# Altium integrated library TI Power Management Linear Regulator Single Channel LDO (0-350mA).IntLib: 1648 symbols (part 16 of 66)
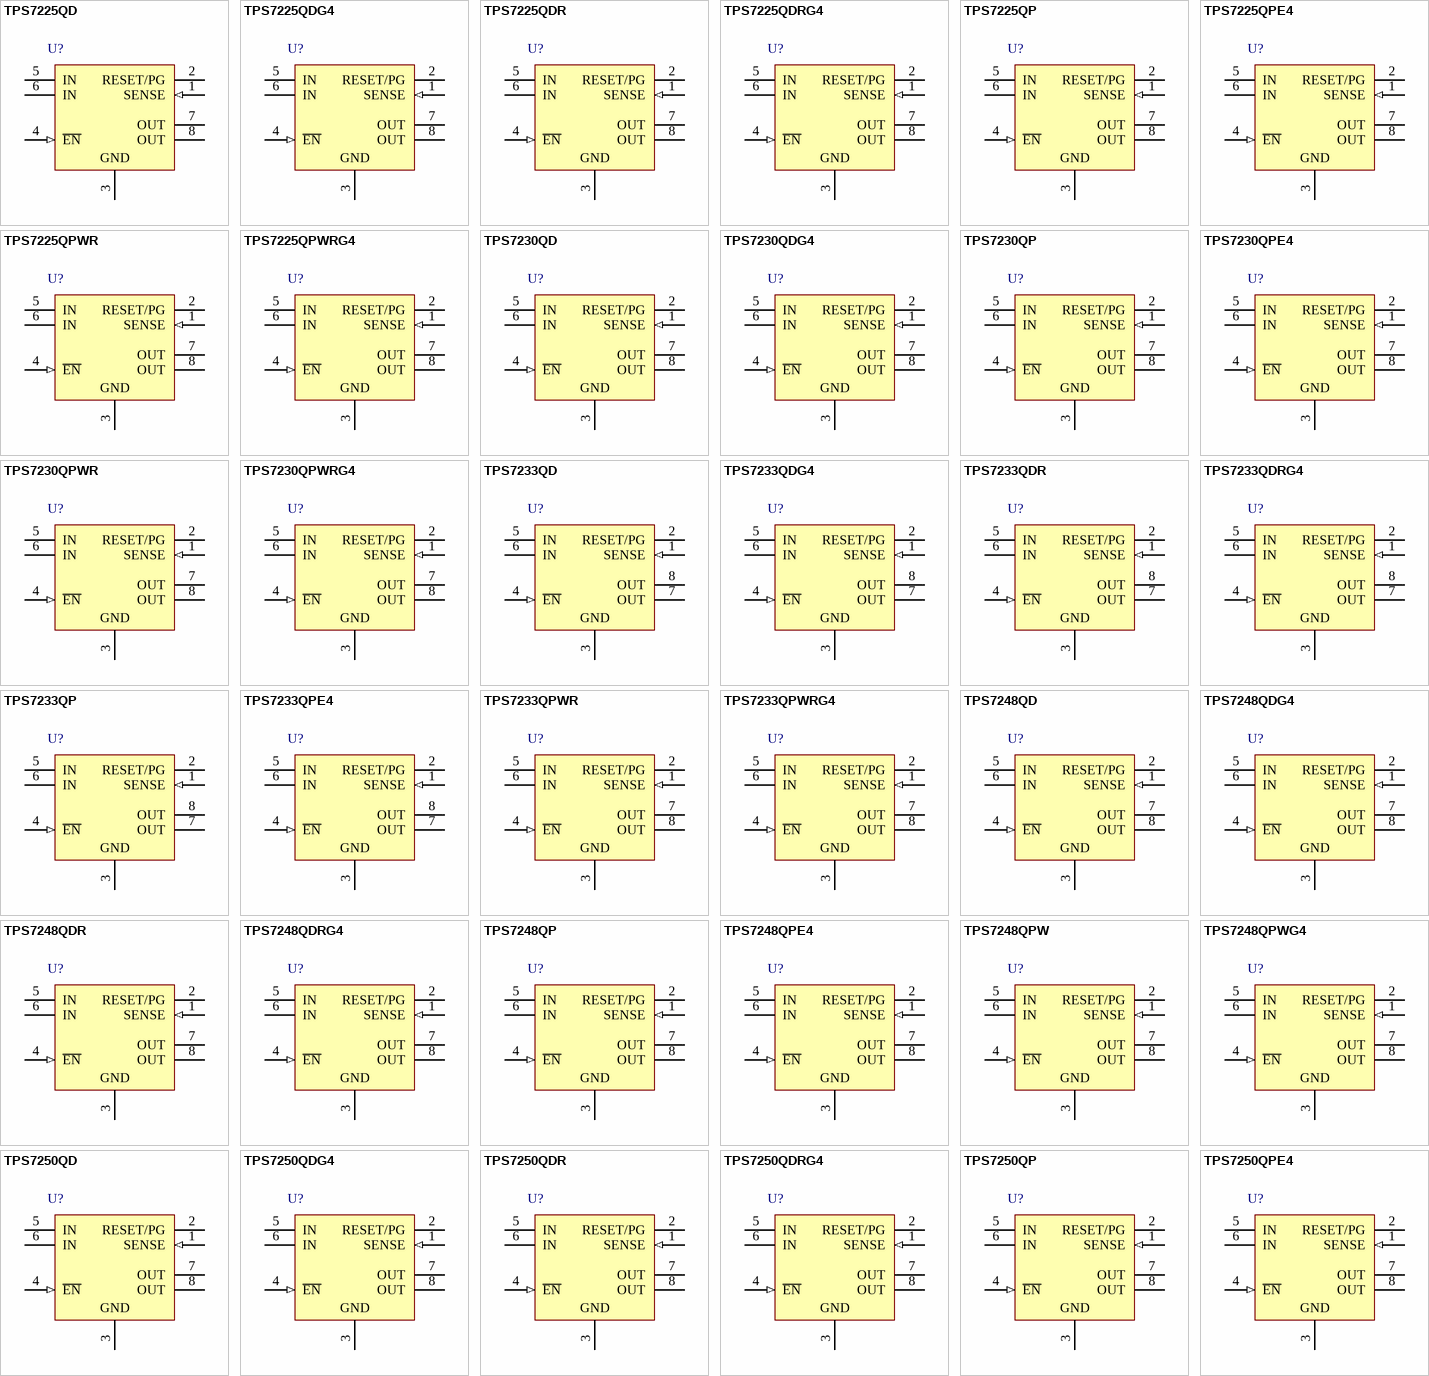
[diagram p57: symbols TPS7225QD to TPS7250QPE4]

## TPS7248QPW
designator U?
Single Output LDO, 250 mA, Fixed 4.85 V Output, 5.2 to 10 V Input, with Low IQ, 8-pin TSSOP (PW), -40 to 125 degC, Green (RoHS & no Sb/Br); Manufacturer: Texas Instruments; PartNumber: TPS7248QPW; Fixed Output Options(V): 4.85; Iout(Max)(A): 0.25; Iq(Typ)(mA): 0.18; Power Good: TRUE; SubFamily: Single Channel LDO; Vdo(Typ)(mV): 216; Vin(Max)(V): 10; Vin(Min)(V): 5.24; DatasheetVersion: SLVS102G; PackageVersion: 4040064-2/G; PackageReference: PW8; PackageDescription: 8-Pin Plastic Small Outline, Body 4.4 x 3 mm, Pitch 0.65 mm; Supplier 1: Digi-Key; Supplier Part Number 1: TPS7248QPW-ND; Supplier 2: Mouser; Supplier Part Number 2: 595-TPS7248QPW; Eco-Plan: Green (RoHS & no Sb/Br); Vout Adj(Max)(V): 4.85; Vout Adj(Min)(V): 4.85; Mounting Technology: Surface Mount; Code_JEDEC: MO-153; ComponentLink1Description: Manufacturer URL; ComponentLink1URL: http://www.ti.com/; ComponentLink2Description: Datasheet; ComponentLink2URL: http://www.ti.com/general/docs/lit/getliterature.tsp?genericPartNumber=TPS7248&fileType=pdf; ComponentLink3Description: Package Specification; ComponentLink3URL: http://www.ti.com/litv/pdf/mtss001d
footprint TI-PW8_N (SOP, 8-Leads, Body 4.4x3mm, Pitch 0.65mm, IPC Medium Density)
footprint TI-PW8_L (SOP, 8-Leads, Body 4.4x3mm, Pitch 0.65mm, IPC High Density)
footprint TI-PW8_M (SOP, 8-Leads, Body 4.4x3mm, Pitch 0.65mm, IPC Low Density)
pins: 1 SENSE (in), 2 RESET/PG (oc), 3 GND (power), 4 ~{EN} (in), 5 IN (power), 6 IN (power), 7 OUT (power), 8 OUT (power)

## TPS7248QPWG4
designator U?
Single Output LDO, 250 mA, Fixed 4.85 V Output, 5.2 to 10 V Input, with Low IQ, 8-pin TSSOP (PW), -55 to 150 degC, Green (RoHS & no Sb/Br); Manufacturer: Texas Instruments; PartNumber: TPS7248QPWG4; Fixed Output Options(V): 4.85; Iout(Max)(A): 0.25; Iq(Typ)(mA): 0.18; Power Good: TRUE; SubFamily: Single Channel LDO; Vdo(Typ)(mV): 216; Vin(Max)(V): 10; Vin(Min)(V): 5.24; DatasheetVersion: SLVS102G; PackageVersion: 4040064-2/G; PackageReference: PW8; PackageDescription: 8-Pin Plastic Small Outline, Body 4.4 x 3 mm, Pitch 0.65 mm; Supplier 1: Digi-Key; Supplier Part Number 1: TPS7248QPWG4-ND; Supplier 2: Mouser; Supplier Part Number 2: 595-TPS7248QPWG4; Eco-Plan: Green (RoHS & no Sb/Br); Vout Adj(Max)(V): 4.85; Vout Adj(Min)(V): 4.85; Mounting Technology: Surface Mount; Code_JEDEC: MO-153; ComponentLink1Description: Manufacturer URL; ComponentLink1URL: http://www.ti.com/; ComponentLink2Description: Datasheet; ComponentLink2URL: http://www.ti.com/general/docs/lit/getliterature.tsp?genericPartNumber=TPS7248&fileType=pdf; ComponentLink3Description: Package Specification; ComponentLink3URL: http://www.ti.com/litv/pdf/mtss001d
footprint TI-PW8_N (SOP, 8-Leads, Body 4.4x3mm, Pitch 0.65mm, IPC Medium Density)
footprint TI-PW8_L (SOP, 8-Leads, Body 4.4x3mm, Pitch 0.65mm, IPC High Density)
footprint TI-PW8_M (SOP, 8-Leads, Body 4.4x3mm, Pitch 0.65mm, IPC Low Density)
pins: 1 SENSE (in), 2 RESET/PG (oc), 3 GND (power), 4 ~{EN} (in), 5 IN (power), 6 IN (power), 7 OUT (power), 8 OUT (power)

## TPS7250QD
designator U?
Single Output LDO, 250 mA, Fixed 5 V Output, 5.4 to 10 V Input, with Low IQ, 8-pin SOIC (D), -40 to 125 degC, Green (RoHS & no Sb/Br); Manufacturer: Texas Instruments; PartNumber: TPS7250QD; Accuracy(%): 2; Fixed Output Options(V): 5; Iout(Max)(A): 0.25; Iq(Typ)(mA): 0.18; Power Good: TRUE; SubFamily: Single Channel LDO; Vdo(Typ)(mV): 190; Vin(Max)(V): 10; Vin(Min)(V): 5.41; DatasheetVersion: SLVS102G; PackageVersion: 4040047-3/M; PackageReference: D8; PackageDescription: 8-Pin Plastic Small Outline, Body 4.9 x 3.9 mm, Pitch 1.27 mm; Supplier 1: Digi-Key; Supplier Part Number 1: 296-1361-5-ND; Supplier 2: Newark; Supplier Part Number 2: 72K9598; Supplier 3: Mouser; Supplier Part Number 3: 595-TPS7250QD; Eco-Plan: Green (RoHS & no Sb/Br); Vout Adj(Max)(V): 5; Vout Adj(Min)(V): 5; Mounting Technology: Surface Mount; Code_JEDEC: MS-012; ComponentLink1Description: Manufacturer URL; ComponentLink1URL: http://www.ti.com/; ComponentLink2Description: Datasheet; ComponentLink2URL: http://www.ti.com/general/docs/lit/getliterature.tsp?genericPartNumber=TPS7250&fileType=pdf; ComponentLink3Description: Package Specification; ComponentLink3URL: http://www.ti.com/litv/pdf/msoi002j
footprint TI-D8_N (SOIC, 8-Leads, Body 4.9x3.9mm, Pitch 1.27mm, IPC Medium Density)
footprint TI-D8_L (SOIC, 8-Leads, Body 4.9x3.9mm, Pitch 1.27mm, IPC High Density)
footprint TI-D8_M (SOIC, 8-Leads, Body 4.9x3.9mm, Pitch 1.27mm, IPC Low Density)
pins: 1 SENSE (in), 2 RESET/PG (oc), 3 GND (power), 4 ~{EN} (in), 5 IN (power), 6 IN (power), 7 OUT (power), 8 OUT (power)

## TPS7250QDG4
designator U?
Single Output LDO, 250 mA, Fixed 5 V Output, 5.4 to 10 V Input, with Low IQ, 8-pin SOIC (D), -40 to 125 degC, Green (RoHS & no Sb/Br); Manufacturer: Texas Instruments; PartNumber: TPS7250QDG4; Accuracy(%): 2; Fixed Output Options(V): 5; Iout(Max)(A): 0.25; Iq(Typ)(mA): 0.18; Power Good: TRUE; SubFamily: Single Channel LDO; Vdo(Typ)(mV): 190; Vin(Max)(V): 10; Vin(Min)(V): 5.41; DatasheetVersion: SLVS102G; PackageVersion: 4040047-3/M; PackageReference: D8; PackageDescription: 8-Pin Plastic Small Outline, Body 4.9 x 3.9 mm, Pitch 1.27 mm; Supplier 1: Digi-Key; Supplier Part Number 1: TPS7250QDG4-ND; Supplier 2: Mouser; Supplier Part Number 2: 595-TPS7250QDG4; Eco-Plan: Green (RoHS & no Sb/Br); Vout Adj(Max)(V): 5; Vout Adj(Min)(V): 5; Mounting Technology: Surface Mount; Code_JEDEC: MS-012; ComponentLink1Description: Manufacturer URL; ComponentLink1URL: http://www.ti.com/; ComponentLink2Description: Datasheet; ComponentLink2URL: http://www.ti.com/general/docs/lit/getliterature.tsp?genericPartNumber=TPS7250&fileType=pdf; ComponentLink3Description: Package Specification; ComponentLink3URL: http://www.ti.com/litv/pdf/msoi002j
footprint TI-D8_N (SOIC, 8-Leads, Body 4.9x3.9mm, Pitch 1.27mm, IPC Medium Density)
footprint TI-D8_L (SOIC, 8-Leads, Body 4.9x3.9mm, Pitch 1.27mm, IPC High Density)
footprint TI-D8_M (SOIC, 8-Leads, Body 4.9x3.9mm, Pitch 1.27mm, IPC Low Density)
pins: 1 SENSE (in), 2 RESET/PG (oc), 3 GND (power), 4 ~{EN} (in), 5 IN (power), 6 IN (power), 7 OUT (power), 8 OUT (power)

## TPS7250QDR
designator U?
Single Output LDO, 250 mA, Fixed 5 V Output, 5.4 to 10 V Input, with Low IQ, 8-pin SOIC (D), -40 to 125 degC, Green (RoHS & no Sb/Br); Manufacturer: Texas Instruments; PartNumber: TPS7250QDR; Accuracy(%): 2; Fixed Output Options(V): 5; Iout(Max)(A): 0.25; Iq(Typ)(mA): 0.18; Power Good: TRUE; SubFamily: Single Channel LDO; Vdo(Typ)(mV): 190; Vin(Max)(V): 10; Vin(Min)(V): 5.41; DatasheetVersion: SLVS102G; PackageVersion: 4040047-3/M; PackageReference: D8; PackageDescription: 8-Pin Plastic Small Outline, Body 4.9 x 3.9 mm, Pitch 1.27 mm; Supplier 1: Digi-Key; Supplier Part Number 1: 296-1361-2-ND; Supplier 2: Digi-Key; Supplier Part Number 2: 296-1361-1-ND; Supplier 3: Digi-Key; Supplier Part Number 3: 296-1361-6-ND; Supplier 4: Newark; Supplier Part Number 4: 35C2220; Supplier 5: Mouser; Supplier Part Number 5: 595-TPS7250QDR; Eco-Plan: Green (RoHS & no Sb/Br); Vout Adj(Max)(V): 5; Vout Adj(Min)(V): 5; Mounting Technology: Surface Mount; Code_JEDEC: MS-012; ComponentLink1Description: Manufacturer URL; ComponentLink1URL: http://www.ti.com/; ComponentLink2Description: Datasheet; ComponentLink2URL: http://www.ti.com/general/docs/lit/getliterature.tsp?genericPartNumber=TPS7250&fileType=pdf; ComponentLink3Description: Package Specification; ComponentLink3URL: http://www.ti.com/litv/pdf/msoi002j
footprint TI-D8_N (SOIC, 8-Leads, Body 4.9x3.9mm, Pitch 1.27mm, IPC Medium Density)
footprint TI-D8_L (SOIC, 8-Leads, Body 4.9x3.9mm, Pitch 1.27mm, IPC High Density)
footprint TI-D8_M (SOIC, 8-Leads, Body 4.9x3.9mm, Pitch 1.27mm, IPC Low Density)
pins: 1 SENSE (in), 2 RESET/PG (oc), 3 GND (power), 4 ~{EN} (in), 5 IN (power), 6 IN (power), 7 OUT (power), 8 OUT (power)

## TPS7250QDRG4
designator U?
Single Output LDO, 250 mA, Fixed 5 V Output, 5.4 to 10 V Input, with Low IQ, 8-pin SOIC (D), -40 to 125 degC, Green (RoHS & no Sb/Br); Manufacturer: Texas Instruments; PartNumber: TPS7250QDRG4; Accuracy(%): 2; Fixed Output Options(V): 5; Iout(Max)(A): 0.25; Iq(Typ)(mA): 0.18; Power Good: TRUE; SubFamily: Single Channel LDO; Vdo(Typ)(mV): 190; Vin(Max)(V): 10; Vin(Min)(V): 5.41; DatasheetVersion: SLVS102G; PackageVersion: 4040047-3/M; PackageReference: D8; PackageDescription: 8-Pin Plastic Small Outline, Body 4.9 x 3.9 mm, Pitch 1.27 mm; Supplier 1: Digi-Key; Supplier Part Number 1: TPS7250QDRG4-ND; Supplier 2: Mouser; Supplier Part Number 2: 595-TPS7250QDRG4; Eco-Plan: Green (RoHS & no Sb/Br); Vout Adj(Max)(V): 5; Vout Adj(Min)(V): 5; Mounting Technology: Surface Mount; Code_JEDEC: MS-012; ComponentLink1Description: Manufacturer URL; ComponentLink1URL: http://www.ti.com/; ComponentLink2Description: Datasheet; ComponentLink2URL: http://www.ti.com/general/docs/lit/getliterature.tsp?genericPartNumber=TPS7250&fileType=pdf; ComponentLink3Description: Package Specification; ComponentLink3URL: http://www.ti.com/litv/pdf/msoi002j
footprint TI-D8_N (SOIC, 8-Leads, Body 4.9x3.9mm, Pitch 1.27mm, IPC Medium Density)
footprint TI-D8_L (SOIC, 8-Leads, Body 4.9x3.9mm, Pitch 1.27mm, IPC High Density)
footprint TI-D8_M (SOIC, 8-Leads, Body 4.9x3.9mm, Pitch 1.27mm, IPC Low Density)
pins: 1 SENSE (in), 2 RESET/PG (oc), 3 GND (power), 4 ~{EN} (in), 5 IN (power), 6 IN (power), 7 OUT (power), 8 OUT (power)

## TPS7250QP
designator U?
Single Output LDO, 250 mA, Fixed 5 V Output, 5.4 to 10 V Input, with Low IQ, 8-pin PDIP (P), -40 to 125 degC, Pb-Free (RoHS); Manufacturer: Texas Instruments; PartNumber: TPS7250QP; Accuracy(%): 2; Fixed Output Options(V): 5; Iout(Max)(A): 0.25; Iq(Typ)(mA): 0.18; Power Good: TRUE; SubFamily: Single Channel LDO; Vdo(Typ)(mV): 190; Vin(Max)(V): 10; Vin(Min)(V): 5.41; DatasheetVersion: SLVS102G; PackageVersion: 4040082/E; PackageReference: P8; PackageDescription: 8-Pin Plastic In-Line, Body 9.59 x 6.35 mm, 2.54 mm Pitch; Supplier 1: Digi-Key; Supplier Part Number 1: 296-8059-5-ND; Supplier 2: Farnell; Supplier Part Number 2: 1135414; Supplier 3: Newark; Supplier Part Number 3: 52F3990; Supplier 4: Mouser; Supplier Part Number 4: 595-TPS7250QP; Eco-Plan: Pb-Free (RoHS); Vout Adj(Max)(V): 5; Vout Adj(Min)(V): 5; Mounting Technology: Through Hole; Code_JEDEC: MS-001; ComponentLink1Description: Manufacturer URL; ComponentLink1URL: http://www.ti.com/; ComponentLink2Description: Datasheet; ComponentLink2URL: http://www.ti.com/general/docs/lit/getliterature.tsp?genericPartNumber=TPS7250&fileType=pdf; ComponentLink3Description: Package Specification; ComponentLink3URL: http://www.ti.com/litv/pdf/mpdi001b
footprint TI-P8 (DIP, 8-Leads, Body 9.59x6.35mm, Pitch 2.54mm)
pins: 1 SENSE (in), 2 RESET/PG (oc), 3 GND (power), 4 ~{EN} (in), 5 IN (power), 6 IN (power), 7 OUT (power), 8 OUT (power)

## TPS7250QPE4
designator U?
Single Output LDO, 250 mA, Fixed 5 V Output, 5.4 to 10 V Input, with Low IQ, 8-pin PDIP (P), -40 to 125 degC, Pb-Free (RoHS); Manufacturer: Texas Instruments; PartNumber: TPS7250QPE4; Accuracy(%): 2; Fixed Output Options(V): 5; Iout(Max)(A): 0.25; Iq(Typ)(mA): 0.18; Power Good: TRUE; SubFamily: Single Channel LDO; Vdo(Typ)(mV): 190; Vin(Max)(V): 10; Vin(Min)(V): 5.41; DatasheetVersion: SLVS102G; PackageVersion: 4040082/E; PackageReference: P8; PackageDescription: 8-Pin Plastic In-Line, Body 9.59 x 6.35 mm, 2.54 mm Pitch; Supplier 1: Digi-Key; Supplier Part Number 1: TPS7250QPE4-ND; Supplier 2: Mouser; Supplier Part Number 2: 595-TPS7250QPE4; Eco-Plan: Pb-Free (RoHS); Vout Adj(Max)(V): 5; Vout Adj(Min)(V): 5; Mounting Technology: Through Hole; Code_JEDEC: MS-001; ComponentLink1Description: Manufacturer URL; ComponentLink1URL: http://www.ti.com/; ComponentLink2Description: Datasheet; ComponentLink2URL: http://www.ti.com/general/docs/lit/getliterature.tsp?genericPartNumber=TPS7250&fileType=pdf; ComponentLink3Description: Package Specification; ComponentLink3URL: http://www.ti.com/litv/pdf/mpdi001b
footprint TI-P8 (DIP, 8-Leads, Body 9.59x6.35mm, Pitch 2.54mm)
pins: 1 SENSE (in), 2 RESET/PG (oc), 3 GND (power), 4 ~{EN} (in), 5 IN (power), 6 IN (power), 7 OUT (power), 8 OUT (power)

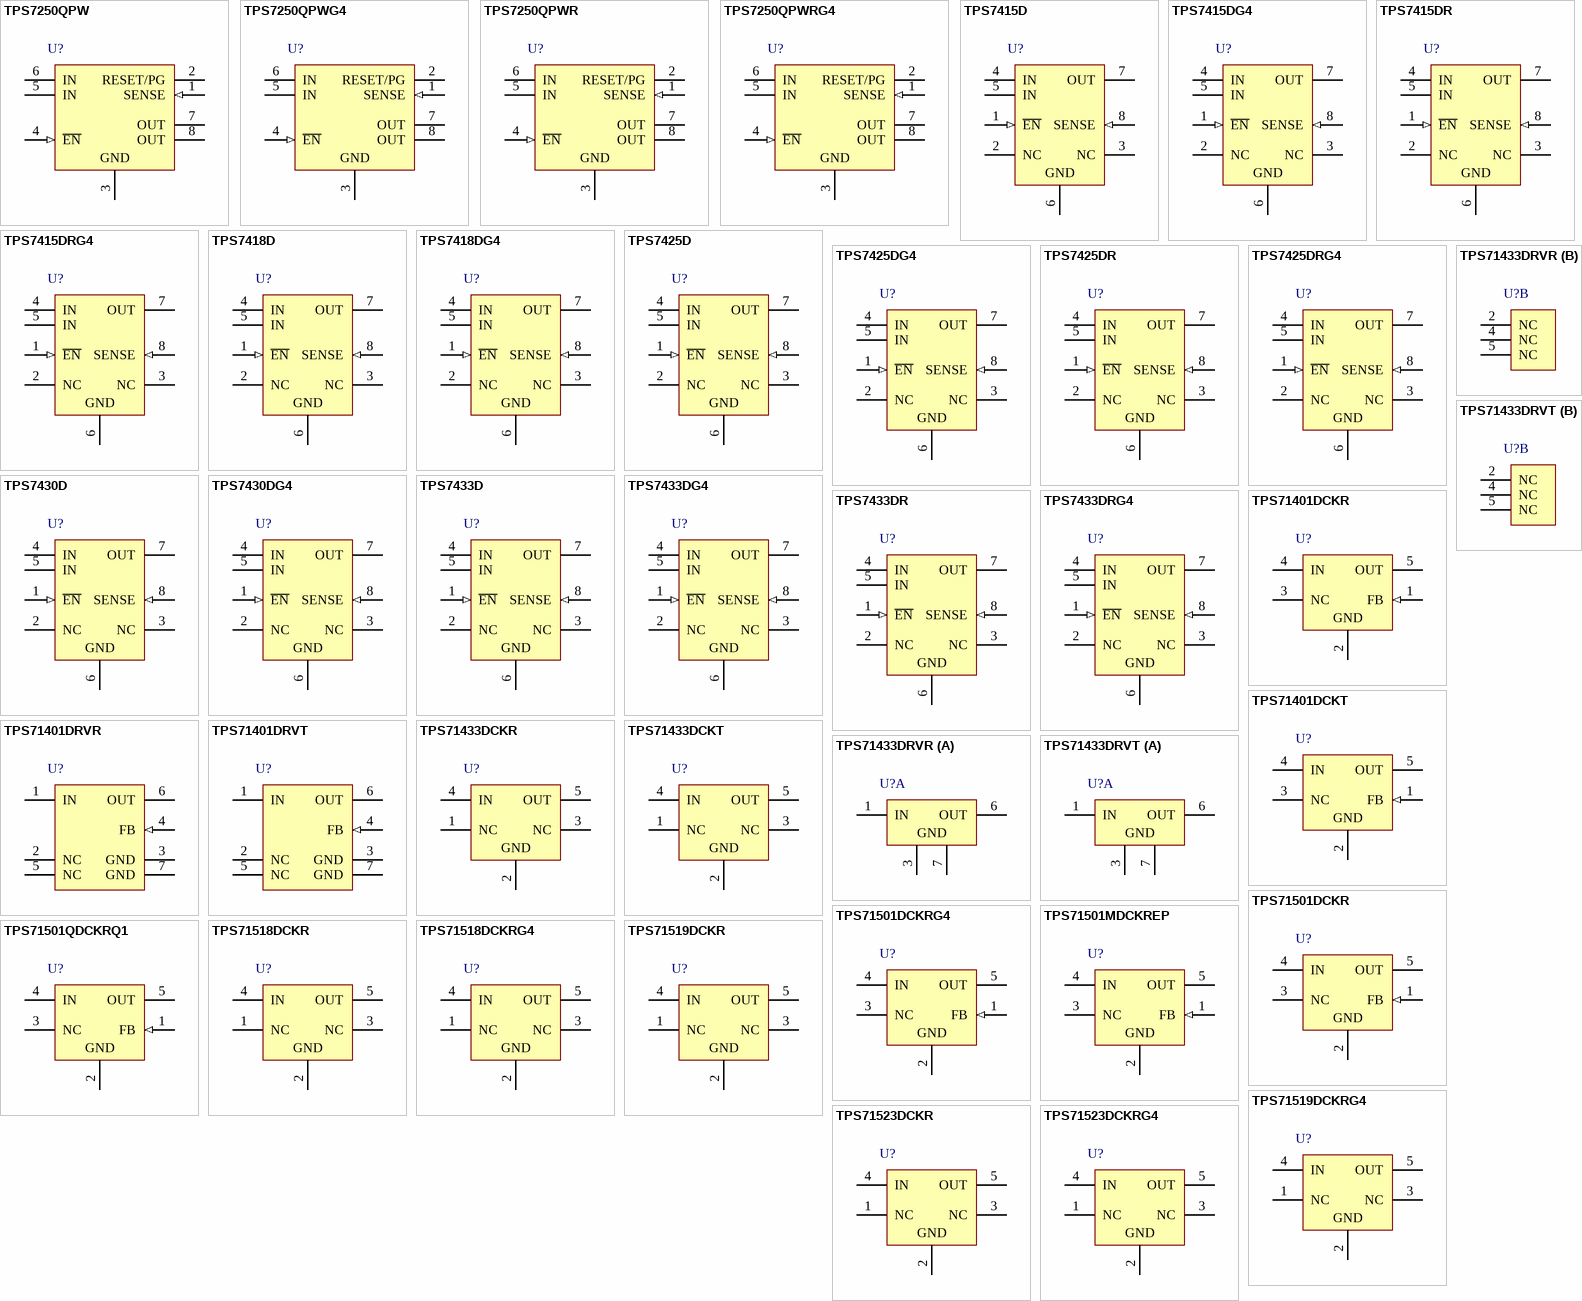
[diagram p11: symbols TPS7250QPW to TPS71523DCKRG4]

## TPS7250QPW
designator U?
Single Output LDO, 250 mA, Fixed 5 V Output, 5.4 to 10 V Input, with Low IQ, 8-pin TSSOP (PW), -40 to 125 degC, Green (RoHS & no Sb/Br); Manufacturer: Texas Instruments; PartNumber: TPS7250QPW; Accuracy(%): 2; Fixed Output Options(V): 5; Iout(Max)(A): 0.25; Iq(Typ)(mA): 0.18; Power Good: TRUE; SubFamily: Single Channel LDO; Vdo(Typ)(mV): 190; Vin(Max)(V): 10; Vin(Min)(V): 5.41; DatasheetVersion: SLVS102G; PackageVersion: 4040064-2/G; PackageReference: PW8; PackageDescription: 8-Pin Plastic Small Outline, Body 4.4 x 3 mm, Pitch 0.65 mm; Supplier 1: Digi-Key; Supplier Part Number 1: TPS7250QPW-ND; Supplier 2: Mouser; Supplier Part Number 2: 595-TPS7250QPW; Eco-Plan: Green (RoHS & no Sb/Br); Vout Adj(Max)(V): 5; Vout Adj(Min)(V): 5; Mounting Technology: Surface Mount; Code_JEDEC: MO-153; ComponentLink1Description: Manufacturer URL; ComponentLink1URL: http://www.ti.com/; ComponentLink2Description: Datasheet; ComponentLink2URL: http://www.ti.com/general/docs/lit/getliterature.tsp?genericPartNumber=TPS7250&fileType=pdf; ComponentLink3Description: Package Specification; ComponentLink3URL: http://www.ti.com/litv/pdf/mtss001d
footprint TI-PW8_N (SOP, 8-Leads, Body 4.4x3mm, Pitch 0.65mm, IPC Medium Density)
footprint TI-PW8_L (SOP, 8-Leads, Body 4.4x3mm, Pitch 0.65mm, IPC High Density)
footprint TI-PW8_M (SOP, 8-Leads, Body 4.4x3mm, Pitch 0.65mm, IPC Low Density)
pins: 1 SENSE (in), 2 RESET/PG (oc), 3 GND (power), 4 ~{EN} (in), 5 IN (power), 6 IN (power), 7 OUT (power), 8 OUT (power)

## TPS7250QPWG4
designator U?
Single Output LDO, 250 mA, Fixed 5 V Output, 5.4 to 10 V Input, with Low IQ, 8-pin TSSOP (PW), -40 to 125 degC, Green (RoHS & no Sb/Br); Manufacturer: Texas Instruments; PartNumber: TPS7250QPWG4; Accuracy(%): 2; Fixed Output Options(V): 5; Iout(Max)(A): 0.25; Iq(Typ)(mA): 0.18; Power Good: TRUE; SubFamily: Single Channel LDO; Vdo(Typ)(mV): 190; Vin(Max)(V): 10; Vin(Min)(V): 5.41; DatasheetVersion: SLVS102G; PackageVersion: 4040064-2/G; PackageReference: PW8; PackageDescription: 8-Pin Plastic Small Outline, Body 4.4 x 3 mm, Pitch 0.65 mm; Supplier 1: Digi-Key; Supplier Part Number 1: TPS7250QPWG4-ND; Supplier 2: Mouser; Supplier Part Number 2: 595-TPS7250QPWG4; Eco-Plan: Green (RoHS & no Sb/Br); Vout Adj(Max)(V): 5; Vout Adj(Min)(V): 5; Mounting Technology: Surface Mount; Code_JEDEC: MO-153; ComponentLink1Description: Manufacturer URL; ComponentLink1URL: http://www.ti.com/; ComponentLink2Description: Datasheet; ComponentLink2URL: http://www.ti.com/general/docs/lit/getliterature.tsp?genericPartNumber=TPS7250&fileType=pdf; ComponentLink3Description: Package Specification; ComponentLink3URL: http://www.ti.com/litv/pdf/mtss001d
footprint TI-PW8_N (SOP, 8-Leads, Body 4.4x3mm, Pitch 0.65mm, IPC Medium Density)
footprint TI-PW8_L (SOP, 8-Leads, Body 4.4x3mm, Pitch 0.65mm, IPC High Density)
footprint TI-PW8_M (SOP, 8-Leads, Body 4.4x3mm, Pitch 0.65mm, IPC Low Density)
pins: 1 SENSE (in), 2 RESET/PG (oc), 3 GND (power), 4 ~{EN} (in), 5 IN (power), 6 IN (power), 7 OUT (power), 8 OUT (power)

## TPS7250QPWR
designator U?
Single Output LDO, 250 mA, Fixed 5 V Output, 5.4 to 10 V Input, with Low IQ, 8-pin TSSOP (PW), -40 to 125 degC, Green (RoHS & no Sb/Br); Manufacturer: Texas Instruments; PartNumber: TPS7250QPWR; Accuracy(%): 2; Fixed Output Options(V): 5; Iout(Max)(A): 0.25; Iq(Typ)(mA): 0.18; Power Good: TRUE; SubFamily: Single Channel LDO; Vdo(Typ)(mV): 190; Vin(Max)(V): 10; Vin(Min)(V): 5.41; DatasheetVersion: SLVS102G; PackageVersion: 4040064-2/G; PackageReference: PW8; PackageDescription: 8-Pin Plastic Small Outline, Body 4.4 x 3 mm, Pitch 0.65 mm; Supplier 1: Digi-Key; Supplier Part Number 1: 296-8060-2-ND; Supplier 2: Digi-Key; Supplier Part Number 2: 296-8060-1-ND; Supplier 3: Digi-Key; Supplier Part Number 3: 296-8060-6-ND; Supplier 4: Mouser; Supplier Part Number 4: 595-TPS7250QPWR; Eco-Plan: Green (RoHS & no Sb/Br); Vout Adj(Max)(V): 5; Vout Adj(Min)(V): 5; Mounting Technology: Surface Mount; Code_JEDEC: MO-153; ComponentLink1Description: Manufacturer URL; ComponentLink1URL: http://www.ti.com/; ComponentLink2Description: Datasheet; ComponentLink2URL: http://www.ti.com/general/docs/lit/getliterature.tsp?genericPartNumber=TPS7250&fileType=pdf; ComponentLink3Description: Package Specification; ComponentLink3URL: http://www.ti.com/litv/pdf/mtss001d
footprint TI-PW8_N (SOP, 8-Leads, Body 4.4x3mm, Pitch 0.65mm, IPC Medium Density)
footprint TI-PW8_L (SOP, 8-Leads, Body 4.4x3mm, Pitch 0.65mm, IPC High Density)
footprint TI-PW8_M (SOP, 8-Leads, Body 4.4x3mm, Pitch 0.65mm, IPC Low Density)
pins: 1 SENSE (in), 2 RESET/PG (oc), 3 GND (power), 4 ~{EN} (in), 5 IN (power), 6 IN (power), 7 OUT (power), 8 OUT (power)

## TPS7250QPWRG4
designator U?
Single Output LDO, 250 mA, Fixed 5 V Output, 5.4 to 10 V Input, with Low IQ, 8-pin TSSOP (PW), -40 to 125 degC, Green (RoHS & no Sb/Br); Manufacturer: Texas Instruments; PartNumber: TPS7250QPWRG4; Accuracy(%): 2; Fixed Output Options(V): 5; Iout(Max)(A): 0.25; Iq(Typ)(mA): 0.18; Power Good: TRUE; SubFamily: Single Channel LDO; Vdo(Typ)(mV): 190; Vin(Max)(V): 10; Vin(Min)(V): 5.41; DatasheetVersion: SLVS102G; PackageVersion: 4040064-2/G; PackageReference: PW8; PackageDescription: 8-Pin Plastic Small Outline, Body 4.4 x 3 mm, Pitch 0.65 mm; Supplier 1: Digi-Key; Supplier Part Number 1: TPS7250QPWRG4-ND; Supplier 2: Mouser; Supplier Part Number 2: 595-TPS7250QPWRG4; Eco-Plan: Green (RoHS & no Sb/Br); Vout Adj(Max)(V): 5; Vout Adj(Min)(V): 5; Mounting Technology: Surface Mount; Code_JEDEC: MO-153; ComponentLink1Description: Manufacturer URL; ComponentLink1URL: http://www.ti.com/; ComponentLink2Description: Datasheet; ComponentLink2URL: http://www.ti.com/general/docs/lit/getliterature.tsp?genericPartNumber=TPS7250&fileType=pdf; ComponentLink3Description: Package Specification; ComponentLink3URL: http://www.ti.com/litv/pdf/mtss001d
footprint TI-PW8_N (SOP, 8-Leads, Body 4.4x3mm, Pitch 0.65mm, IPC Medium Density)
footprint TI-PW8_L (SOP, 8-Leads, Body 4.4x3mm, Pitch 0.65mm, IPC High Density)
footprint TI-PW8_M (SOP, 8-Leads, Body 4.4x3mm, Pitch 0.65mm, IPC Low Density)
pins: 1 SENSE (in), 2 RESET/PG (oc), 3 GND (power), 4 ~{EN} (in), 5 IN (power), 6 IN (power), 7 OUT (power), 8 OUT (power)

## TPS7415D
designator U?
Single Output Fast Transient Response LDO, 200 mA, Fixed 1.5 V Output, 2.5 to 7 V Input, 8-pin SOIC (D), -40 to 125 degC, Green (RoHS & no Sb/Br); Manufacturer: Texas Instruments; PartNumber: TPS7415D; Fixed Output Options(V): 1.5; Iout(Max)(A): 0.2; Iq(Typ)(mA): 0.001; SubFamily: Single Channel LDO; Vdo(Typ)(mV): 200; Vin(Max)(V): 7; Vin(Min)(V): 2.5; DatasheetVersion: SLVS212; PackageVersion: 4040047-3/M; PackageReference: D8; PackageDescription: 8-Pin Plastic Small Outline, Body 4.9 x 3.9 mm, Pitch 1.27 mm; Supplier 1: Digi-Key; Supplier Part Number 1: 296-2668-5-ND; Supplier 2: Mouser; Supplier Part Number 2: 595-TPS7415D; Eco-Plan: Green (RoHS & no Sb/Br); Vout Adj(Max)(V): 1.5; Vout Adj(Min)(V): 1.5; Mounting Technology: Surface Mount; Code_JEDEC: MS-012; ComponentLink1Description: Manufacturer URL; ComponentLink1URL: http://www.ti.com/; ComponentLink2Description: Datasheet; ComponentLink2URL: http://www.ti.com/general/docs/lit/getliterature.tsp?genericPartNumber=TPS7415&fileType=pdf; ComponentLink3Description: Package Specification; ComponentLink3URL: http://www.ti.com/litv/pdf/msoi002j
footprint TI-D8_N (SOIC, 8-Leads, Body 4.9x3.9mm, Pitch 1.27mm, IPC Medium Density)
footprint TI-D8_L (SOIC, 8-Leads, Body 4.9x3.9mm, Pitch 1.27mm, IPC High Density)
footprint TI-D8_M (SOIC, 8-Leads, Body 4.9x3.9mm, Pitch 1.27mm, IPC Low Density)
pins: 1 ~{EN} (in) "Enable input", 2 NC "Not connected", 3 NC "Not connected", 4 IN (power) "Input voltage", 5 IN (power) "Input voltage", 6 GND (power) "Regulator ground", 7 OUT (power) "Regulated output voltage", 8 SENSE (in) "Sense"

## TPS7415DG4
designator U?
Single Output Fast Transient Response LDO, 200 mA, Fixed 1.5 V Output, 2.5 to 7 V Input, 8-pin SOIC (D), -40 to 125 degC, Green (RoHS & no Sb/Br); Manufacturer: Texas Instruments; PartNumber: TPS7415DG4; Fixed Output Options(V): 1.5; Iout(Max)(A): 0.2; Iq(Typ)(mA): 0.001; SubFamily: Single Channel LDO; Vdo(Typ)(mV): 200; Vin(Max)(V): 7; Vin(Min)(V): 2.5; DatasheetVersion: SLVS212; PackageVersion: 4040047-3/M; PackageReference: D8; PackageDescription: 8-Pin Plastic Small Outline, Body 4.9 x 3.9 mm, Pitch 1.27 mm; Supplier 1: Digi-Key; Supplier Part Number 1: TPS7415DG4-ND; Supplier 2: Mouser; Supplier Part Number 2: 595-TPS7415DG4; Eco-Plan: Green (RoHS & no Sb/Br); Vout Adj(Max)(V): 1.5; Vout Adj(Min)(V): 1.5; Mounting Technology: Surface Mount; Code_JEDEC: MS-012; ComponentLink1Description: Manufacturer URL; ComponentLink1URL: http://www.ti.com/; ComponentLink2Description: Datasheet; ComponentLink2URL: http://www.ti.com/general/docs/lit/getliterature.tsp?genericPartNumber=TPS7415&fileType=pdf; ComponentLink3Description: Package Specification; ComponentLink3URL: http://www.ti.com/litv/pdf/msoi002j
footprint TI-D8_N (SOIC, 8-Leads, Body 4.9x3.9mm, Pitch 1.27mm, IPC Medium Density)
footprint TI-D8_L (SOIC, 8-Leads, Body 4.9x3.9mm, Pitch 1.27mm, IPC High Density)
footprint TI-D8_M (SOIC, 8-Leads, Body 4.9x3.9mm, Pitch 1.27mm, IPC Low Density)
pins: 1 ~{EN} (in) "Enable input", 2 NC "Not connected", 3 NC "Not connected", 4 IN (power) "Input voltage", 5 IN (power) "Input voltage", 6 GND (power) "Regulator ground", 7 OUT (power) "Regulated output voltage", 8 SENSE (in) "Sense"

## TPS7415DR
designator U?
Single Output Fast Transient Response LDO, 200 mA, Fixed 1.5 V Output, 2.5 to 7 V Input, 8-pin SOIC (D), -40 to 125 degC, Green (RoHS & no Sb/Br); Manufacturer: Texas Instruments; PartNumber: TPS7415DR; Fixed Output Options(V): 1.5; Iout(Max)(A): 0.2; Iq(Typ)(mA): 0.001; SubFamily: Single Channel LDO; Vdo(Typ)(mV): 200; Vin(Max)(V): 7; Vin(Min)(V): 2.5; DatasheetVersion: SLVS212; PackageVersion: 4040047-3/M; PackageReference: D8; PackageDescription: 8-Pin Plastic Small Outline, Body 4.9 x 3.9 mm, Pitch 1.27 mm; Supplier 1: Digi-Key; Supplier Part Number 1: TPS7415DR-ND; Supplier 2: Newark; Supplier Part Number 2: 77C0887; Supplier 3: Mouser; Supplier Part Number 3: 595-TPS7415DR; Eco-Plan: Green (RoHS & no Sb/Br); Vout Adj(Max)(V): 1.5; Vout Adj(Min)(V): 1.5; Mounting Technology: Surface Mount; Code_JEDEC: MS-012; ComponentLink1Description: Manufacturer URL; ComponentLink1URL: http://www.ti.com/; ComponentLink2Description: Datasheet; ComponentLink2URL: http://www.ti.com/general/docs/lit/getliterature.tsp?genericPartNumber=TPS7415&fileType=pdf; ComponentLink3Description: Package Specification; ComponentLink3URL: http://www.ti.com/litv/pdf/msoi002j
footprint TI-D8_N (SOIC, 8-Leads, Body 4.9x3.9mm, Pitch 1.27mm, IPC Medium Density)
footprint TI-D8_L (SOIC, 8-Leads, Body 4.9x3.9mm, Pitch 1.27mm, IPC High Density)
footprint TI-D8_M (SOIC, 8-Leads, Body 4.9x3.9mm, Pitch 1.27mm, IPC Low Density)
pins: 1 ~{EN} (in) "Enable input", 2 NC "Not connected", 3 NC "Not connected", 4 IN (power) "Input voltage", 5 IN (power) "Input voltage", 6 GND (power) "Regulator ground", 7 OUT (power) "Regulated output voltage", 8 SENSE (in) "Sense"

## TPS7415DRG4
designator U?
Single Output Fast Transient Response LDO, 200 mA, Fixed 1.5 V Output, 2.5 to 7 V Input, 8-pin SOIC (D), -40 to 125 degC, Green (RoHS & no Sb/Br); Manufacturer: Texas Instruments; PartNumber: TPS7415DRG4; Fixed Output Options(V): 1.5; Iout(Max)(A): 0.2; Iq(Typ)(mA): 0.001; SubFamily: Single Channel LDO; Vdo(Typ)(mV): 200; Vin(Max)(V): 7; Vin(Min)(V): 2.5; DatasheetVersion: SLVS212; PackageVersion: 4040047-3/M; PackageReference: D8; PackageDescription: 8-Pin Plastic Small Outline, Body 4.9 x 3.9 mm, Pitch 1.27 mm; Supplier 1: Digi-Key; Supplier Part Number 1: TPS7415DRG4-ND; Supplier 2: Mouser; Supplier Part Number 2: 595-TPS7415DRG4; Eco-Plan: Green (RoHS & no Sb/Br); Vout Adj(Max)(V): 1.5; Vout Adj(Min)(V): 1.5; Mounting Technology: Surface Mount; Code_JEDEC: MS-012; ComponentLink1Description: Manufacturer URL; ComponentLink1URL: http://www.ti.com/; ComponentLink2Description: Datasheet; ComponentLink2URL: http://www.ti.com/general/docs/lit/getliterature.tsp?genericPartNumber=TPS7415&fileType=pdf; ComponentLink3Description: Package Specification; ComponentLink3URL: http://www.ti.com/litv/pdf/msoi002j
footprint TI-D8_N (SOIC, 8-Leads, Body 4.9x3.9mm, Pitch 1.27mm, IPC Medium Density)
footprint TI-D8_L (SOIC, 8-Leads, Body 4.9x3.9mm, Pitch 1.27mm, IPC High Density)
footprint TI-D8_M (SOIC, 8-Leads, Body 4.9x3.9mm, Pitch 1.27mm, IPC Low Density)
pins: 1 ~{EN} (in) "Enable input", 2 NC "Not connected", 3 NC "Not connected", 4 IN (power) "Input voltage", 5 IN (power) "Input voltage", 6 GND (power) "Regulator ground", 7 OUT (power) "Regulated output voltage", 8 SENSE (in) "Sense"

## TPS7418D
designator U?
Single Output Fast Transient Response LDO, 200 mA, Fixed 1.8 V Output, 2.5 to 7 V Input, 8-pin SOIC (D), -40 to 125 degC, Green (RoHS & no Sb/Br); Manufacturer: Texas Instruments; PartNumber: TPS7418D; Fixed Output Options(V): 1.8; Iout(Max)(A): 0.2; Iq(Typ)(mA): 0.001; SubFamily: Single Channel LDO; Vdo(Typ)(mV): 200; Vin(Max)(V): 7; Vin(Min)(V): 2.5; DatasheetVersion: SLVS212; PackageVersion: 4040047-3/M; PackageReference: D8; PackageDescription: 8-Pin Plastic Small Outline, Body 4.9 x 3.9 mm, Pitch 1.27 mm; Supplier 1: Digi-Key; Supplier Part Number 1: 296-2669-5-ND; Supplier 2: Newark; Supplier Part Number 2: 77C0888; Supplier 3: Mouser; Supplier Part Number 3: 595-TPS7418D; Eco-Plan: Green (RoHS & no Sb/Br); Vout Adj(Max)(V): 1.8; Vout Adj(Min)(V): 1.8; Mounting Technology: Surface Mount; Code_JEDEC: MS-012; ComponentLink1Description: Manufacturer URL; ComponentLink1URL: http://www.ti.com/; ComponentLink2Description: Datasheet; ComponentLink2URL: http://www.ti.com/general/docs/lit/getliterature.tsp?genericPartNumber=TPS7418&fileType=pdf; ComponentLink3Description: Package Specification; ComponentLink3URL: http://www.ti.com/litv/pdf/msoi002j
footprint TI-D8_N (SOIC, 8-Leads, Body 4.9x3.9mm, Pitch 1.27mm, IPC Medium Density)
footprint TI-D8_L (SOIC, 8-Leads, Body 4.9x3.9mm, Pitch 1.27mm, IPC High Density)
footprint TI-D8_M (SOIC, 8-Leads, Body 4.9x3.9mm, Pitch 1.27mm, IPC Low Density)
pins: 1 ~{EN} (in) "Enable input", 2 NC "Not connected", 3 NC "Not connected", 4 IN (power) "Input voltage", 5 IN (power) "Input voltage", 6 GND (power) "Regulator ground", 7 OUT (power) "Regulated output voltage", 8 SENSE (in) "Sense"

## TPS7418DG4
designator U?
Single Output Fast Transient Response LDO, 200 mA, Fixed 1.8 V Output, 2.5 to 7 V Input, 8-pin SOIC (D), -40 to 125 degC, Green (RoHS & no Sb/Br); Manufacturer: Texas Instruments; PartNumber: TPS7418DG4; Fixed Output Options(V): 1.8; Iout(Max)(A): 0.2; Iq(Typ)(mA): 0.001; SubFamily: Single Channel LDO; Vdo(Typ)(mV): 200; Vin(Max)(V): 7; Vin(Min)(V): 2.5; DatasheetVersion: SLVS212; PackageVersion: 4040047-3/M; PackageReference: D8; PackageDescription: 8-Pin Plastic Small Outline, Body 4.9 x 3.9 mm, Pitch 1.27 mm; Supplier 1: Digi-Key; Supplier Part Number 1: TPS7418DG4-ND; Supplier 2: Newark; Supplier Part Number 2: 34M0215; Supplier 3: Mouser; Supplier Part Number 3: 595-TPS7418DG4; Eco-Plan: Green (RoHS & no Sb/Br); Vout Adj(Max)(V): 1.8; Vout Adj(Min)(V): 1.8; Mounting Technology: Surface Mount; Code_JEDEC: MS-012; ComponentLink1Description: Manufacturer URL; ComponentLink1URL: http://www.ti.com/; ComponentLink2Description: Datasheet; ComponentLink2URL: http://www.ti.com/general/docs/lit/getliterature.tsp?genericPartNumber=TPS7418&fileType=pdf; ComponentLink3Description: Package Specification; ComponentLink3URL: http://www.ti.com/litv/pdf/msoi002j
footprint TI-D8_N (SOIC, 8-Leads, Body 4.9x3.9mm, Pitch 1.27mm, IPC Medium Density)
footprint TI-D8_L (SOIC, 8-Leads, Body 4.9x3.9mm, Pitch 1.27mm, IPC High Density)
footprint TI-D8_M (SOIC, 8-Leads, Body 4.9x3.9mm, Pitch 1.27mm, IPC Low Density)
pins: 1 ~{EN} (in) "Enable input", 2 NC "Not connected", 3 NC "Not connected", 4 IN (power) "Input voltage", 5 IN (power) "Input voltage", 6 GND (power) "Regulator ground", 7 OUT (power) "Regulated output voltage", 8 SENSE (in) "Sense"

## TPS7425D
designator U?
Single Output Fast Transient Response LDO, 200 mA, Fixed 2.5 V Output, 2.5 to 7 V Input, 8-pin SOIC (D), -40 to 125 degC, Green (RoHS & no Sb/Br); Manufacturer: Texas Instruments; PartNumber: TPS7425D; Fixed Output Options(V): 2.5; Iout(Max)(A): 0.2; Iq(Typ)(mA): 0.001; SubFamily: Single Channel LDO; Vdo(Typ)(mV): 200; Vin(Max)(V): 7; DatasheetVersion: SLVS212; PackageVersion: 4040047-3/M; PackageReference: D8; PackageDescription: 8-Pin Plastic Small Outline, Body 4.9 x 3.9 mm, Pitch 1.27 mm; Supplier 1: Digi-Key; Supplier Part Number 1: 296-2670-5-ND; Supplier 2: Newark; Supplier Part Number 2: 77C0890; Supplier 3: Mouser; Supplier Part Number 3: 595-TPS7425D; Eco-Plan: Green (RoHS & no Sb/Br); Vin(Min)(V): 2.5; Vout Adj(Max)(V): 2.5; Vout Adj(Min)(V): 2.5; Mounting Technology: Surface Mount; Code_JEDEC: MS-012; ComponentLink1Description: Manufacturer URL; ComponentLink1URL: http://www.ti.com/; ComponentLink2Description: Datasheet; ComponentLink2URL: http://www.ti.com/general/docs/lit/getliterature.tsp?genericPartNumber=TPS7425&fileType=pdf; ComponentLink3Description: Package Specification; ComponentLink3URL: http://www.ti.com/litv/pdf/msoi002j
footprint TI-D8_N (SOIC, 8-Leads, Body 4.9x3.9mm, Pitch 1.27mm, IPC Medium Density)
footprint TI-D8_L (SOIC, 8-Leads, Body 4.9x3.9mm, Pitch 1.27mm, IPC High Density)
footprint TI-D8_M (SOIC, 8-Leads, Body 4.9x3.9mm, Pitch 1.27mm, IPC Low Density)
pins: 1 ~{EN} (in) "Enable input", 2 NC "Not connected", 3 NC "Not connected", 4 IN (power) "Input voltage", 5 IN (power) "Input voltage", 6 GND (power) "Regulator ground", 7 OUT (power) "Regulated output voltage", 8 SENSE (in) "Sense"

## TPS7425DG4
designator U?
Single Output Fast Transient Response LDO, 200 mA, Fixed 2.5 V Output, 2.5 to 7 V Input, 8-pin SOIC (D), -40 to 125 degC, Green (RoHS & no Sb/Br); Manufacturer: Texas Instruments; PartNumber: TPS7425DG4; Fixed Output Options(V): 2.5; Iout(Max)(A): 0.2; Iq(Typ)(mA): 0.001; SubFamily: Single Channel LDO; Vdo(Typ)(mV): 200; Vin(Max)(V): 7; DatasheetVersion: SLVS212; PackageVersion: 4040047-3/M; PackageReference: D8; PackageDescription: 8-Pin Plastic Small Outline, Body 4.9 x 3.9 mm, Pitch 1.27 mm; Supplier 1: Digi-Key; Supplier Part Number 1: TPS7425DG4-ND; Supplier 2: Mouser; Supplier Part Number 2: 595-TPS7425DG4; Eco-Plan: Green (RoHS & no Sb/Br); Vin(Min)(V): 2.5; Vout Adj(Max)(V): 2.5; Vout Adj(Min)(V): 2.5; Mounting Technology: Surface Mount; Code_JEDEC: MS-012; ComponentLink1Description: Manufacturer URL; ComponentLink1URL: http://www.ti.com/; ComponentLink2Description: Datasheet; ComponentLink2URL: http://www.ti.com/general/docs/lit/getliterature.tsp?genericPartNumber=TPS7425&fileType=pdf; ComponentLink3Description: Package Specification; ComponentLink3URL: http://www.ti.com/litv/pdf/msoi002j
footprint TI-D8_N (SOIC, 8-Leads, Body 4.9x3.9mm, Pitch 1.27mm, IPC Medium Density)
footprint TI-D8_L (SOIC, 8-Leads, Body 4.9x3.9mm, Pitch 1.27mm, IPC High Density)
footprint TI-D8_M (SOIC, 8-Leads, Body 4.9x3.9mm, Pitch 1.27mm, IPC Low Density)
pins: 1 ~{EN} (in) "Enable input", 2 NC "Not connected", 3 NC "Not connected", 4 IN (power) "Input voltage", 5 IN (power) "Input voltage", 6 GND (power) "Regulator ground", 7 OUT (power) "Regulated output voltage", 8 SENSE (in) "Sense"

## TPS7425DR
designator U?
Single Output Fast Transient Response LDO, 200 mA, Fixed 2.5 V Output, 2.5 to 7 V Input, 8-pin SOIC (D), -40 to 125 degC, Green (RoHS & no Sb/Br); Manufacturer: Texas Instruments; PartNumber: TPS7425DR; Fixed Output Options(V): 2.5; Iout(Max)(A): 0.2; Iq(Typ)(mA): 0.001; SubFamily: Single Channel LDO; Vdo(Typ)(mV): 200; Vin(Max)(V): 7; DatasheetVersion: SLVS212; PackageVersion: 4040047-3/M; PackageReference: D8; PackageDescription: 8-Pin Plastic Small Outline, Body 4.9 x 3.9 mm, Pitch 1.27 mm; Supplier 1: Digi-Key; Supplier Part Number 1: TPS7425DR-ND; Supplier 2: Mouser; Supplier Part Number 2: 595-TPS7425DR; Eco-Plan: Green (RoHS & no Sb/Br); Vin(Min)(V): 2.5; Vout Adj(Max)(V): 2.5; Vout Adj(Min)(V): 2.5; Mounting Technology: Surface Mount; Code_JEDEC: MS-012; ComponentLink1Description: Manufacturer URL; ComponentLink1URL: http://www.ti.com/; ComponentLink2Description: Datasheet; ComponentLink2URL: http://www.ti.com/general/docs/lit/getliterature.tsp?genericPartNumber=TPS7425&fileType=pdf; ComponentLink3Description: Package Specification; ComponentLink3URL: http://www.ti.com/litv/pdf/msoi002j
footprint TI-D8_N (SOIC, 8-Leads, Body 4.9x3.9mm, Pitch 1.27mm, IPC Medium Density)
footprint TI-D8_L (SOIC, 8-Leads, Body 4.9x3.9mm, Pitch 1.27mm, IPC High Density)
footprint TI-D8_M (SOIC, 8-Leads, Body 4.9x3.9mm, Pitch 1.27mm, IPC Low Density)
pins: 1 ~{EN} (in) "Enable input", 2 NC "Not connected", 3 NC "Not connected", 4 IN (power) "Input voltage", 5 IN (power) "Input voltage", 6 GND (power) "Regulator ground", 7 OUT (power) "Regulated output voltage", 8 SENSE (in) "Sense"

## TPS7425DRG4
designator U?
Single Output Fast Transient Response LDO, 200 mA, Fixed 2.5 V Output, 2.5 to 7 V Input, 8-pin SOIC (D), -40 to 125 degC, Green (RoHS & no Sb/Br); Manufacturer: Texas Instruments; PartNumber: TPS7425DRG4; Fixed Output Options(V): 2.5; Iout(Max)(A): 0.2; Iq(Typ)(mA): 0.001; SubFamily: Single Channel LDO; Vdo(Typ)(mV): 200; Vin(Max)(V): 7; DatasheetVersion: SLVS212; PackageVersion: 4040047-3/M; PackageReference: D8; PackageDescription: 8-Pin Plastic Small Outline, Body 4.9 x 3.9 mm, Pitch 1.27 mm; Supplier 1: Digi-Key; Supplier Part Number 1: TPS7425DRG4-ND; Supplier 2: Mouser; Supplier Part Number 2: 595-TPS7425DRG4; Eco-Plan: Green (RoHS & no Sb/Br); Vin(Min)(V): 2.5; Vout Adj(Max)(V): 2.5; Vout Adj(Min)(V): 2.5; Mounting Technology: Surface Mount; Code_JEDEC: MS-012; ComponentLink1Description: Manufacturer URL; ComponentLink1URL: http://www.ti.com/; ComponentLink2Description: Datasheet; ComponentLink2URL: http://www.ti.com/general/docs/lit/getliterature.tsp?genericPartNumber=TPS7425&fileType=pdf; ComponentLink3Description: Package Specification; ComponentLink3URL: http://www.ti.com/litv/pdf/msoi002j
footprint TI-D8_N (SOIC, 8-Leads, Body 4.9x3.9mm, Pitch 1.27mm, IPC Medium Density)
footprint TI-D8_L (SOIC, 8-Leads, Body 4.9x3.9mm, Pitch 1.27mm, IPC High Density)
footprint TI-D8_M (SOIC, 8-Leads, Body 4.9x3.9mm, Pitch 1.27mm, IPC Low Density)
pins: 1 ~{EN} (in) "Enable input", 2 NC "Not connected", 3 NC "Not connected", 4 IN (power) "Input voltage", 5 IN (power) "Input voltage", 6 GND (power) "Regulator ground", 7 OUT (power) "Regulated output voltage", 8 SENSE (in) "Sense"

## TPS7430D
designator U?
Single Output Fast Transient Response LDO, 200 mA, Fixed 3 V Output, 2.5 to 7 V Input, 8-pin SOIC (D), -40 to 125 degC, Green (RoHS & no Sb/Br); Manufacturer: Texas Instruments; PartNumber: TPS7430D; Fixed Output Options(V): 3; Iout(Max)(A): 0.2; Iq(Typ)(mA): 0.001; SubFamily: Single Channel LDO; Vdo(Typ)(mV): 200; Vin(Max)(V): 7; Vin(Min)(V): 2.5; DatasheetVersion: SLVS212; PackageVersion: 4040047-3/M; PackageReference: D8; PackageDescription: 8-Pin Plastic Small Outline, Body 4.9 x 3.9 mm, Pitch 1.27 mm; Supplier 1: Digi-Key; Supplier Part Number 1: 296-2671-5-ND; Supplier 2: Mouser; Supplier Part Number 2: 595-TPS7430D; Eco-Plan: Green (RoHS & no Sb/Br); Vout Adj(Max)(V): 3; Vout Adj(Min)(V): 3; Mounting Technology: Surface Mount; Code_JEDEC: MS-012; ComponentLink1Description: Manufacturer URL; ComponentLink1URL: http://www.ti.com/; ComponentLink2Description: Datasheet; ComponentLink2URL: http://www.ti.com/general/docs/lit/getliterature.tsp?genericPartNumber=TPS7430&fileType=pdf; ComponentLink3Description: Package Specification; ComponentLink3URL: http://www.ti.com/litv/pdf/msoi002j
footprint TI-D8_N (SOIC, 8-Leads, Body 4.9x3.9mm, Pitch 1.27mm, IPC Medium Density)
footprint TI-D8_L (SOIC, 8-Leads, Body 4.9x3.9mm, Pitch 1.27mm, IPC High Density)
footprint TI-D8_M (SOIC, 8-Leads, Body 4.9x3.9mm, Pitch 1.27mm, IPC Low Density)
pins: 1 ~{EN} (in) "Enable input", 2 NC "Not connected", 3 NC "Not connected", 4 IN (power) "Input voltage", 5 IN (power) "Input voltage", 6 GND (power) "Regulator ground", 7 OUT (power) "Regulated output voltage", 8 SENSE (in) "Sense"

## TPS7430DG4
designator U?
Single Output Fast Transient Response LDO, 200 mA, Fixed 3 V Output, 2.5 to 7 V Input, 8-pin SOIC (D), -40 to 125 degC, Green (RoHS & no Sb/Br); Manufacturer: Texas Instruments; PartNumber: TPS7430DG4; Fixed Output Options(V): 3; Iout(Max)(A): 0.2; Iq(Typ)(mA): 0.001; SubFamily: Single Channel LDO; Vdo(Typ)(mV): 200; Vin(Max)(V): 7; Vin(Min)(V): 2.5; DatasheetVersion: SLVS212; PackageVersion: 4040047-3/M; PackageReference: D8; PackageDescription: 8-Pin Plastic Small Outline, Body 4.9 x 3.9 mm, Pitch 1.27 mm; Supplier 1: Digi-Key; Supplier Part Number 1: TPS7430DG4-ND; Supplier 2: Mouser; Supplier Part Number 2: 595-TPS7430DG4; Eco-Plan: Green (RoHS & no Sb/Br); Vout Adj(Max)(V): 3; Vout Adj(Min)(V): 3; Mounting Technology: Surface Mount; Code_JEDEC: MS-012; ComponentLink1Description: Manufacturer URL; ComponentLink1URL: http://www.ti.com/; ComponentLink2Description: Datasheet; ComponentLink2URL: http://www.ti.com/general/docs/lit/getliterature.tsp?genericPartNumber=TPS7430&fileType=pdf; ComponentLink3Description: Package Specification; ComponentLink3URL: http://www.ti.com/litv/pdf/msoi002j
footprint TI-D8_N (SOIC, 8-Leads, Body 4.9x3.9mm, Pitch 1.27mm, IPC Medium Density)
footprint TI-D8_L (SOIC, 8-Leads, Body 4.9x3.9mm, Pitch 1.27mm, IPC High Density)
footprint TI-D8_M (SOIC, 8-Leads, Body 4.9x3.9mm, Pitch 1.27mm, IPC Low Density)
pins: 1 ~{EN} (in) "Enable input", 2 NC "Not connected", 3 NC "Not connected", 4 IN (power) "Input voltage", 5 IN (power) "Input voltage", 6 GND (power) "Regulator ground", 7 OUT (power) "Regulated output voltage", 8 SENSE (in) "Sense"

## TPS7433D
designator U?
Single Output Fast Transient Response LDO, 200 mA, Fixed 3.3 V Output, 2.5 to 7 V Input, 8-pin SOIC (D), -40 to 125 degC, Green (RoHS & no Sb/Br); Manufacturer: Texas Instruments; PartNumber: TPS7433D; Fixed Output Options(V): 3.3; Iout(Max)(A): 0.2; Iq(Typ)(mA): 0.001; SubFamily: Single Channel LDO; Vdo(Typ)(mV): 200; Vin(Max)(V): 7; Vin(Min)(V): 2.5; DatasheetVersion: SLVS212; PackageVersion: 4040047-3/M; PackageReference: D8; PackageDescription: 8-Pin Plastic Small Outline, Body 4.9 x 3.9 mm, Pitch 1.27 mm; Supplier 1: Digi-Key; Supplier Part Number 1: 296-2672-5-ND; Supplier 2: Farnell; Supplier Part Number 2: 1105911; Supplier 3: Newark; Supplier Part Number 3: 77C0894; Supplier 4: Mouser; Supplier Part Number 4: 595-TPS7433D; Eco-Plan: Green (RoHS & no Sb/Br); Vout Adj(Max)(V): 3.3; Vout Adj(Min)(V): 3.3; Mounting Technology: Surface Mount; Code_JEDEC: MS-012; ComponentLink1Description: Manufacturer URL; ComponentLink1URL: http://www.ti.com/; ComponentLink2Description: Datasheet; ComponentLink2URL: http://www.ti.com/general/docs/lit/getliterature.tsp?genericPartNumber=TPS7433&fileType=pdf; ComponentLink3Description: Package Specification; ComponentLink3URL: http://www.ti.com/litv/pdf/msoi002j
footprint TI-D8_N (SOIC, 8-Leads, Body 4.9x3.9mm, Pitch 1.27mm, IPC Medium Density)
footprint TI-D8_L (SOIC, 8-Leads, Body 4.9x3.9mm, Pitch 1.27mm, IPC High Density)
footprint TI-D8_M (SOIC, 8-Leads, Body 4.9x3.9mm, Pitch 1.27mm, IPC Low Density)
pins: 1 ~{EN} (in) "Enable input", 2 NC "Not connected", 3 NC "Not connected", 4 IN (power) "Input voltage", 5 IN (power) "Input voltage", 6 GND (power) "Regulator ground", 7 OUT (power) "Regulated output voltage", 8 SENSE (in) "Sense"

## TPS7433DG4
designator U?
Single Output Fast Transient Response LDO, 200 mA, Fixed 3.3 V Output, 2.5 to 7 V Input, 8-pin SOIC (D), -40 to 125 degC, Green (RoHS & no Sb/Br); Manufacturer: Texas Instruments; PartNumber: TPS7433DG4; Fixed Output Options(V): 3.3; Iout(Max)(A): 0.2; Iq(Typ)(mA): 0.001; SubFamily: Single Channel LDO; Vdo(Typ)(mV): 200; Vin(Max)(V): 7; Vin(Min)(V): 2.5; DatasheetVersion: SLVS212; PackageVersion: 4040047-3/M; PackageReference: D8; PackageDescription: 8-Pin Plastic Small Outline, Body 4.9 x 3.9 mm, Pitch 1.27 mm; Supplier 1: Digi-Key; Supplier Part Number 1: TPS7433DG4-ND; Supplier 2: Newark; Supplier Part Number 2: 81K4188; Supplier 3: Mouser; Supplier Part Number 3: 595-TPS7433DG4; Eco-Plan: Green (RoHS & no Sb/Br); Vout Adj(Max)(V): 3.3; Vout Adj(Min)(V): 3.3; Mounting Technology: Surface Mount; Code_JEDEC: MS-012; ComponentLink1Description: Manufacturer URL; ComponentLink1URL: http://www.ti.com/; ComponentLink2Description: Datasheet; ComponentLink2URL: http://www.ti.com/general/docs/lit/getliterature.tsp?genericPartNumber=TPS7433&fileType=pdf; ComponentLink3Description: Package Specification; ComponentLink3URL: http://www.ti.com/litv/pdf/msoi002j
footprint TI-D8_N (SOIC, 8-Leads, Body 4.9x3.9mm, Pitch 1.27mm, IPC Medium Density)
footprint TI-D8_L (SOIC, 8-Leads, Body 4.9x3.9mm, Pitch 1.27mm, IPC High Density)
footprint TI-D8_M (SOIC, 8-Leads, Body 4.9x3.9mm, Pitch 1.27mm, IPC Low Density)
pins: 1 ~{EN} (in) "Enable input", 2 NC "Not connected", 3 NC "Not connected", 4 IN (power) "Input voltage", 5 IN (power) "Input voltage", 6 GND (power) "Regulator ground", 7 OUT (power) "Regulated output voltage", 8 SENSE (in) "Sense"

## TPS7433DR
designator U?
Single Output Fast Transient Response LDO, 200 mA, Fixed 3.3 V Output, 2.5 to 7 V Input, 8-pin SOIC (D), -40 to 125 degC, Green (RoHS & no Sb/Br); Manufacturer: Texas Instruments; PartNumber: TPS7433DR; Fixed Output Options(V): 3.3; Iout(Max)(A): 0.2; Iq(Typ)(mA): 0.001; SubFamily: Single Channel LDO; Vdo(Typ)(mV): 200; Vin(Max)(V): 7; Vin(Min)(V): 2.5; DatasheetVersion: SLVS212; PackageVersion: 4040047-3/M; PackageReference: D8; PackageDescription: 8-Pin Plastic Small Outline, Body 4.9 x 3.9 mm, Pitch 1.27 mm; Supplier 1: Digi-Key; Supplier Part Number 1: TPS7433DR-ND; Supplier 2: Mouser; Supplier Part Number 2: 595-TPS7433DR; Eco-Plan: Green (RoHS & no Sb/Br); Vout Adj(Max)(V): 3.3; Vout Adj(Min)(V): 3.3; Mounting Technology: Surface Mount; Code_JEDEC: MS-012; ComponentLink1Description: Manufacturer URL; ComponentLink1URL: http://www.ti.com/; ComponentLink2Description: Datasheet; ComponentLink2URL: http://www.ti.com/general/docs/lit/getliterature.tsp?genericPartNumber=TPS7433&fileType=pdf; ComponentLink3Description: Package Specification; ComponentLink3URL: http://www.ti.com/litv/pdf/msoi002j
footprint TI-D8_N (SOIC, 8-Leads, Body 4.9x3.9mm, Pitch 1.27mm, IPC Medium Density)
footprint TI-D8_L (SOIC, 8-Leads, Body 4.9x3.9mm, Pitch 1.27mm, IPC High Density)
footprint TI-D8_M (SOIC, 8-Leads, Body 4.9x3.9mm, Pitch 1.27mm, IPC Low Density)
pins: 1 ~{EN} (in) "Enable input", 2 NC "Not connected", 3 NC "Not connected", 4 IN (power) "Input voltage", 5 IN (power) "Input voltage", 6 GND (power) "Regulator ground", 7 OUT (power) "Regulated output voltage", 8 SENSE (in) "Sense"

## TPS7433DRG4
designator U?
Single Output Fast Transient Response LDO, 200 mA, Fixed 3.3 V Output, 2.5 to 7 V Input, 8-pin SOIC (D), -40 to 125 degC, Green (RoHS & no Sb/Br); Manufacturer: Texas Instruments; PartNumber: TPS7433DRG4; Fixed Output Options(V): 3.3; Iout(Max)(A): 0.2; Iq(Typ)(mA): 0.001; SubFamily: Single Channel LDO; Vdo(Typ)(mV): 200; Vin(Max)(V): 7; Vin(Min)(V): 2.5; DatasheetVersion: SLVS212; PackageVersion: 4040047-3/M; PackageReference: D8; PackageDescription: 8-Pin Plastic Small Outline, Body 4.9 x 3.9 mm, Pitch 1.27 mm; Supplier 1: Digi-Key; Supplier Part Number 1: TPS7433DRG4-ND; Supplier 2: Mouser; Supplier Part Number 2: 595-TPS7433DRG4; Eco-Plan: Green (RoHS & no Sb/Br); Vout Adj(Max)(V): 3.3; Vout Adj(Min)(V): 3.3; Mounting Technology: Surface Mount; Code_JEDEC: MS-012; ComponentLink1Description: Manufacturer URL; ComponentLink1URL: http://www.ti.com/; ComponentLink2Description: Datasheet; ComponentLink2URL: http://www.ti.com/general/docs/lit/getliterature.tsp?genericPartNumber=TPS7433&fileType=pdf; ComponentLink3Description: Package Specification; ComponentLink3URL: http://www.ti.com/litv/pdf/msoi002j
footprint TI-D8_N (SOIC, 8-Leads, Body 4.9x3.9mm, Pitch 1.27mm, IPC Medium Density)
footprint TI-D8_L (SOIC, 8-Leads, Body 4.9x3.9mm, Pitch 1.27mm, IPC High Density)
footprint TI-D8_M (SOIC, 8-Leads, Body 4.9x3.9mm, Pitch 1.27mm, IPC Low Density)
pins: 1 ~{EN} (in) "Enable input", 2 NC "Not connected", 3 NC "Not connected", 4 IN (power) "Input voltage", 5 IN (power) "Input voltage", 6 GND (power) "Regulator ground", 7 OUT (power) "Regulated output voltage", 8 SENSE (in) "Sense"

## TPS71401DCKR
designator U?
Single Output LDO, 80 mA, Adjustable 1.2 to 8.8 V Output, 2.5 to 10 V Input, with Low IQ, 5-pin SC70 (DCK), -40 to 125 degC, Green (RoHS & no Sb/Br); Manufacturer: Texas Instruments; PartNumber: TPS71401DCKR; Accuracy(%): 4; Fixed Output Options(V): 3.3; Iout(Max)(A): 0.08; Iq(Typ)(mA): 0.003; Rating: Catalog; SubFamily: Single Channel LDO; Vdo(Typ)(mV): 670; Vin(Max)(V): 10; Vin(Min)(V): 2.5; Vout Adj(Max)(V): 8.8; Vout Adj(Min)(V): 1.2; DatasheetVersion: SBVS116C; PackageVersion: 4093553-3/G; PackageReference: DCK5; PackageDescription: 5-Pin Plastic Small-Outline, Body 2 x 1.25 mm, Pitch 0.65 mm; Supplier 1: Digi-Key; Supplier Part Number 1: TPS71401DCKR-ND; Supplier 2: Newark; Supplier Part Number 2: 09R6693; Supplier 3: Mouser; Supplier Part Number 3: 595-TPS71401DCKR; Eco-Plan: Green (RoHS & no Sb/Br); Mounting Technology: Surface Mount; Code_JEDEC: MO-203; ComponentLink1Description: Manufacturer URL; ComponentLink1URL: http://www.ti.com/; ComponentLink2Description: Datasheet; ComponentLink2URL: http://www.ti.com/general/docs/lit/getliterature.tsp?genericPartNumber=TPS71401&fileType=pdf; ComponentLink3Description: Package Specification; ComponentLink3URL: http://www.ti.com/litv/pdf/mpds025f; ComponentLink4Description: URL Link1; ComponentLink4URL: Samples URL:http://www.ti.com/product/tps71401#samples
footprint TI-DCK5_V (SOT23, 5-Leads, Body 2x1.25mm, Pitch 0.65mm)
pins: 1 FB (in) "Feedback. This terminal is used to set the output voltage.", 2 GND (power) "Ground", 3 NC "No connection", 4 IN (power) "Input supply", 5 OUT (power) "Output of the regulator, any output capacitor >= 0.47 uF can be used for stability."

## TPS71401DCKT
designator U?
Single Output LDO, 80 mA, Adjustable 1.2 to 8.8 V Output, 2.5 to 10 V Input, with Low IQ, 5-pin SC70 (DCK), -40 to 125 degC, Green (RoHS & no Sb/Br); Manufacturer: Texas Instruments; PartNumber: TPS71401DCKT; Accuracy(%): 4; Fixed Output Options(V): 3.3; Iout(Max)(A): 0.08; Iq(Typ)(mA): 0.003; Rating: Catalog; SubFamily: Single Channel LDO; Vdo(Typ)(mV): 670; Vin(Max)(V): 10; Vin(Min)(V): 2.5; Vout Adj(Max)(V): 8.8; Vout Adj(Min)(V): 1.2; DatasheetVersion: SBVS116C; PackageVersion: 4093553-3/G; PackageReference: DCK5; PackageDescription: 5-Pin Plastic Small-Outline, Body 2 x 1.25 mm, Pitch 0.65 mm; Supplier 1: Digi-Key; Supplier Part Number 1: 296-24450-2-ND; Supplier 2: Digi-Key; Supplier Part Number 2: 296-24450-1-ND; Supplier 3: Digi-Key; Supplier Part Number 3: 296-24450-6-ND; Supplier 4: Newark; Supplier Part Number 4: 09R6694; Supplier 5: Mouser; Supplier Part Number 5: 595-TPS71401DCKT; Eco-Plan: Green (RoHS & no Sb/Br); Mounting Technology: Surface Mount; Code_JEDEC: MO-203; ComponentLink1Description: Manufacturer URL; ComponentLink1URL: http://www.ti.com/; ComponentLink2Description: Datasheet; ComponentLink2URL: http://www.ti.com/general/docs/lit/getliterature.tsp?genericPartNumber=TPS71401&fileType=pdf; ComponentLink3Description: Package Specification; ComponentLink3URL: http://www.ti.com/litv/pdf/mpds025f; ComponentLink4Description: URL Link1; ComponentLink4URL: Samples URL:http://www.ti.com/product/tps71401#samples
footprint TI-DCK5_V (SOT23, 5-Leads, Body 2x1.25mm, Pitch 0.65mm)
pins: 1 FB (in) "Feedback. This terminal is used to set the output voltage.", 2 GND (power) "Ground", 3 NC "No connection", 4 IN (power) "Input supply", 5 OUT (power) "Output of the regulator, any output capacitor >= 0.47 uF can be used for stability."